# Altium footprint library BNC.PcbLib: 1 footprints
Each footprint in its own frame and in the unit in brackets; x right, y up, seen from the top. Pads: shape width x height; smd on the part's side, far side on the other; paste and mask are expansions set on the pad; w line width, h text height; cw(c..) or ccw(c..) is an arc to the next point about the centre after c.
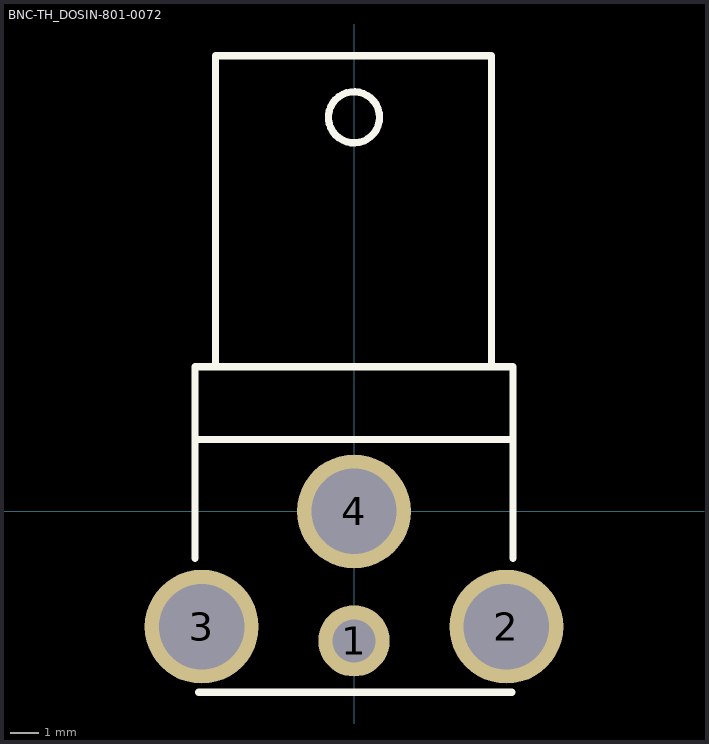
[diagram p0: the footprint, top view; thin cyan lines are the x and y axes]

## BNC-TH_DOSIN-801-0072 [mm]
pads (4):
  round 2.5 hole 1.5: 1(0,-4.55)
  round 4 hole 3: 2(5.35,-4.05) 3(-5.35,-4.05) 4(0,0)
Top Overlay:
  circle w0.254: c0,13.843 r0.898
  lines w0.254: -5.588,-1.651 -5.588,5.08 5.588,5.08 5.588,-1.651 ; -5.588,2.524 5.588,2.524 ; -5.461,-6.35 5.539,-6.35 ; -4.865,5.08 -4.865,16.002 4.826,16.002 4.826,5.08